# EAGLE library part AT97SC3204T (library new-pca9306)
Atmel TPM 1.2
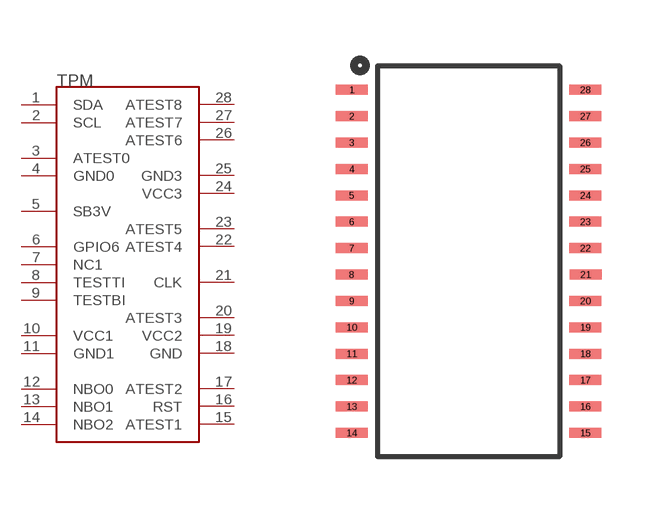
[diagram p122: symbol with the pads of TSSOP28; footprint TSSOP28]

Designator prefix TPM

## AT97SC3204T (PROD_ID: IC-11984)  [TSSOP28]
1  SDA
2  SCL
3  ATEST0  pwr
4  GND0  pwr
5  SB3V  pwr
6  GPIO6
7  NC1  nc
8  TESTTI  pwr
9  TESTBI  pwr
10  VCC1  pwr
11  GND1  pwr
12  NBO0  nc
13  NBO1  nc
14  NBO2  nc
15  ATEST1  pwr
16  RST
17  ATEST2  pwr
18  GND  pwr
19  VCC2  pwr
20  ATEST3  pwr
21  CLK
22  ATEST4  pwr
23  ATEST5  pwr
24  VCC3  pwr
25  GND3  pwr
26  ATEST6  pwr
27  ATEST7  pwr
28  ATEST8  pwr

## Footprint TSSOP28 (pad centres in mm)
smd 0.8 x 0.25: 1 -2.921,4.623; 2 -2.921,3.962; 3 -2.921,3.302; 4 -2.921,2.642; 5 -2.921,1.981; 6 -2.921,1.321; 7 -2.921,0.66; 8 -2.927,0; 9 -2.921,-0.66; 10 -2.921,-1.321; 11 -2.921,-1.981; 12 -2.921,-2.642; 13 -2.921,-3.302; 14 -2.921,-3.962; 15 2.921,-3.962; 16 2.921,-3.302; 17 2.921,-2.642; 18 2.921,-1.981; 19 2.921,-1.321; 20 2.921,-0.66; 21 2.927,0; 22 2.921,0.66; 23 2.921,1.321; 24 2.921,1.981; 25 2.921,2.642; 26 2.921,3.302; 27 2.921,3.962; 28 2.921,4.623